# Altium footprint library QFN-20_3.5x4.5x05P.PcbLib: 1 footprints
Each footprint in its own frame and in the unit in brackets; x right, y up, seen from the top. Pads: shape width x height; smd on the part's side, far side on the other; paste and mask are expansions set on the pad; w line width, h text height; cw(c..) or ccw(c..) is an arc to the next point about the centre after c.
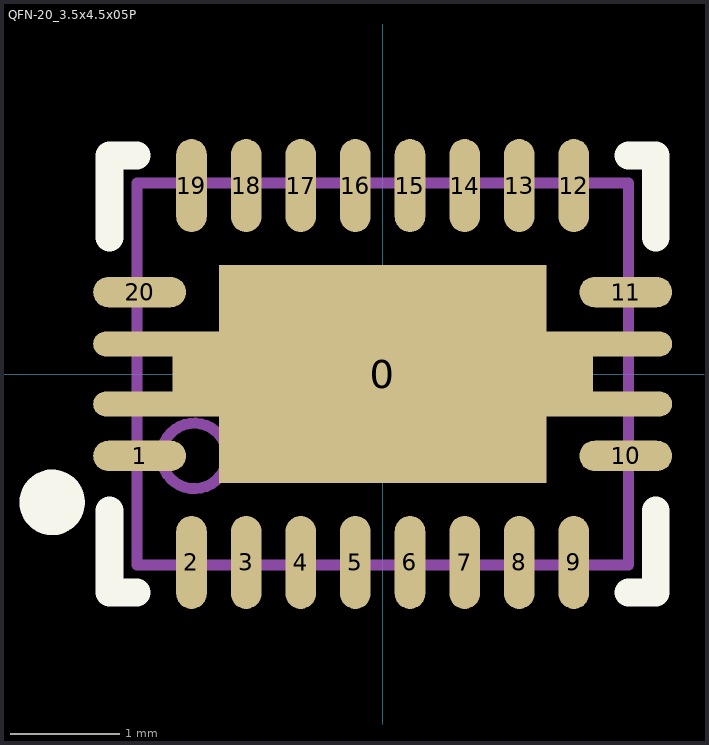
[diagram p0: the footprint, top view; thin cyan lines are the x and y axes]

## QFN-20_3.5x4.5x05P [mm]
pads (26):
  rect 3x2 smd mask+0.051: 0(0,0)
  oval 0.85x0.28 smd mask+0.051: 1(-2.225,-0.75) 10(2.225,-0.75) 11(2.225,0.75) 20(-2.225,0.75)
  oval 0.28x0.85 smd mask+0.051: 2(-1.75,-1.725) 3(-1.25,-1.725) 4(-0.75,-1.725) 5(-0.25,-1.725) 6(0.25,-1.725) 7(0.75,-1.725) 8(1.25,-1.725) 9(1.75,-1.725) 12(1.75,1.725) 13(1.25,1.725) 14(0.75,1.725) 15(0.25,1.725) 16(-0.25,1.725) 17(-0.75,1.725) 18(-1.25,1.725) 19(-1.75,1.725)
  oval 1.3x0.23 smd mask+0.051: ""(-2,-0.275) ""(-2,0.275) ""(2,-0.275) ""(2,0.275)
  rect 3.85x0.505 smd mask+0.051: ""(0,0)
Top Overlay:
  circle w0.3: c-3.025,-1.175 r0.15
  lines w0.254: -2.5,-1.25 -2.5,-2 -2.25,-2 ; -2.5,1.25 -2.5,2 -2.25,2 ; 2.25,-2 2.5,-2 2.5,-1.25 ; 2.25,2 2.5,2 2.5,1.25
Mechanical 13:
  circle w0.1: c-1.725,-0.75 r0.3
  lines w0.1: -2.25,-1.75 2.25,-1.75 2.25,1.75 -2.25,1.75 -2.25,-1.75